# Altium integrated library ASMPH-0603-1R0M-T.IntLib: 1 symbol
Pins are listed as number, name and electrical type; pins without a type are passive.

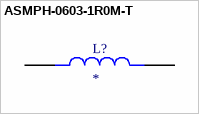
[diagram p0: symbol ASMPH-0603-1R0M-T]

## ASMPH-0603-1R0M-T
designator L?
1 ÂµH Shielded Multilayer Inductor 1 A 200mOhm 0603 (1608 Metric); MF: Abracon LLC; MP: ASMPH-0603-1R0M-T; Package: 1608 Taiyo Yuden; Price: None; Check_prices: https://www.snapeda.com/parts/ASMPH-0603-1R0M-T/Abracon+LLC/view-part/?ref=eda; Value: *; SnapEDA_Link: https://www.snapeda.com/parts/ASMPH-0603-1R0M-T/Abracon+LLC/view-part/?ref=snap; Availability: In Stock; Purchase-URL: https://pricing.snapeda.com/search?q=ASMPH-0603-1R0M-T&ref=eda
footprint INDC1608X95N
pins: 1, 2